# Altium footprint library SM-LP-5001.PcbLib: 1 footprints
Each footprint in its own frame and in the unit in brackets; x right, y up, seen from the top. Pads: shape width x height; smd on the part's side, far side on the other; paste and mask are expansions set on the pad; w line width, h text height; cw(c..) or ccw(c..) is an arc to the next point about the centre after c.
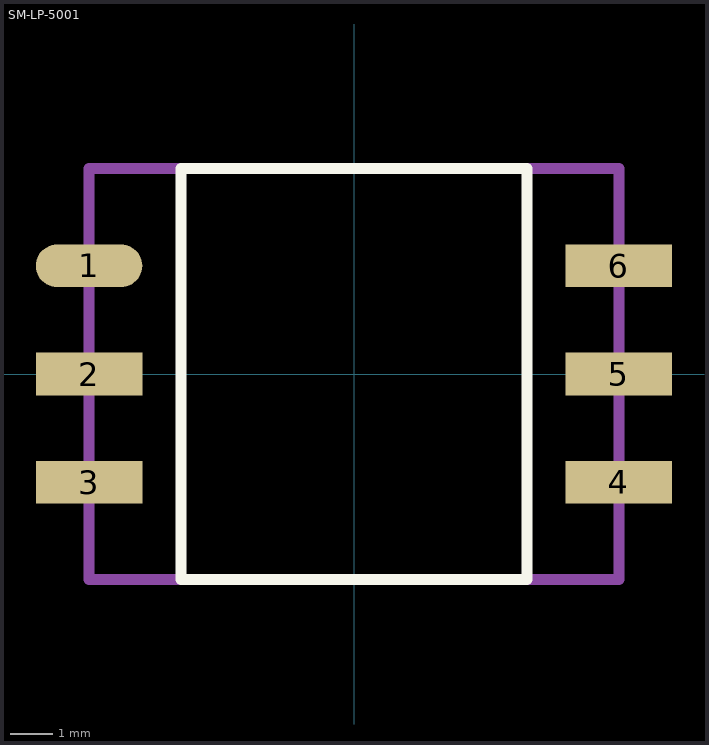
[diagram p0: the footprint, top view; thin cyan lines are the x and y axes]

## SM-LP-5001 [mm]
pads (6):
  oval 2.5x1 smd: 1(-6.219,2.54)
  rect 2.5x1 smd: 2(-6.219,0) 3(-6.219,-2.54) 4(6.219,-2.54) 5(6.219,0) 6(6.219,2.54)
Top Overlay:
  lines w0.254: -4.064,-4.826 4.064,-4.826 4.064,4.826 -4.064,4.826 -4.064,-4.826
Mechanical 13:
  lines w0.254: -6.223,-4.826 6.223,-4.826 6.223,4.826 -6.223,4.826 -6.223,-4.826
  text ".Designator" at -3.048,0.762 h2.5
3D body: height 7.36, standoff 1, extent -6.223,-4.826 6.223,4.826
3D body: height 0.3, standoff 0, extent -6.858,2.159 -5.588,2.921
3D body: height 0.3, standoff 0, extent -6.858,-0.381 -5.588,0.381
3D body: height 0.3, standoff 0, extent -6.858,-2.921 -5.588,-2.159
3D body: height 0.3, standoff 0, extent 5.588,2.159 6.858,2.921
3D body: height 0.3, standoff 0, extent 5.588,-0.381 6.858,0.381
3D body: height 0.3, standoff 0, extent 5.588,-2.921 6.858,-2.159
3D body: height 1, standoff 0.3, extent -6.223,2.159 -5.588,2.921
3D body: height 1, standoff 0.3, extent -6.223,-0.381 -5.588,0.381
3D body: height 1, standoff 0.3, extent -6.223,-2.921 -5.588,-2.159
3D body: height 1, standoff 0.3, extent 5.588,2.159 6.223,2.921
3D body: height 1, standoff 0.3, extent 5.588,-0.381 6.223,0.381
3D body: height 1, standoff 0.3, extent 5.588,-2.921 6.223,-2.159